# EAGLE library part ATMEGA328PB-ANR (library Atmega328pb-ANR)
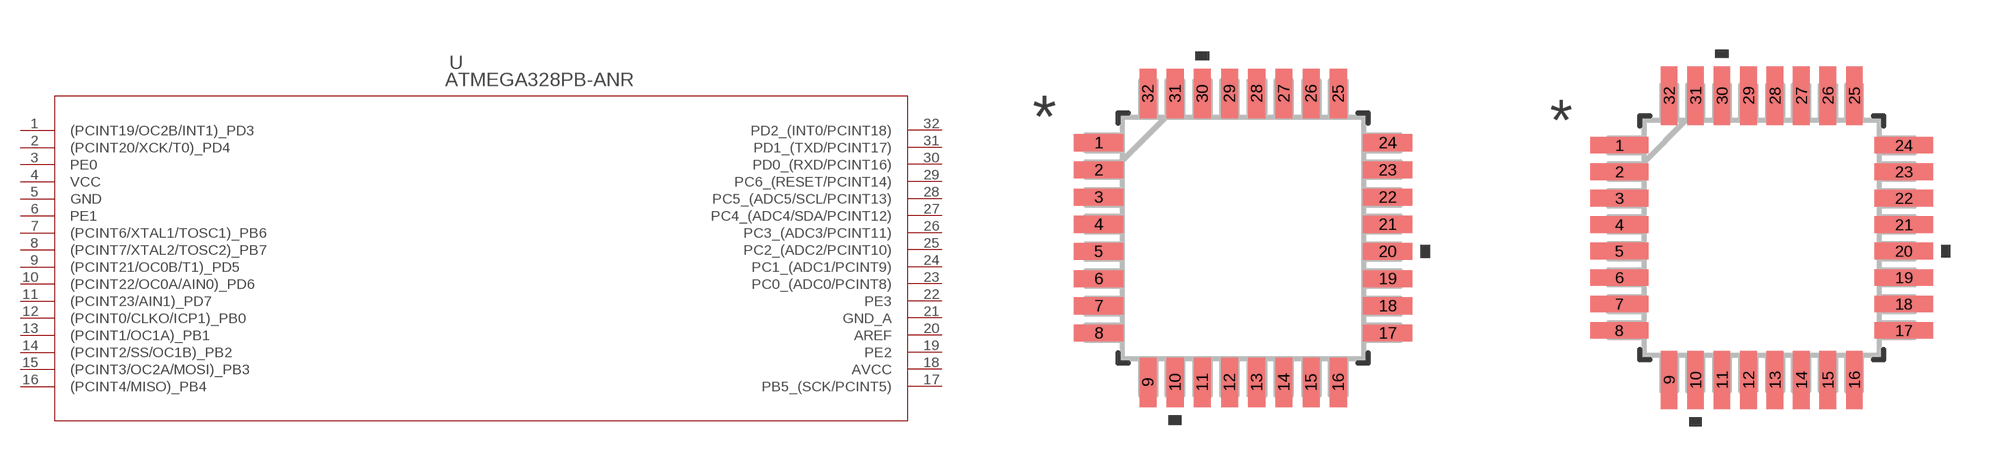
[diagram p0: symbol with the pads of 32A_MCH; footprints 32A_MCH, 32A_MCH-M]

Designator prefix U

## ATMEGA328PB-ANR (BUILT_BY: EMA_Molly; COPYRIGHT: Copyright (C) 2018 Accelerated Designs. All rights reserved; MANUFACTURER_PART_NUMBER: ATMEGA328PB-ANR; SOURCELIBRARY: Microchip_2019-09-03; VENDOR: Microchip)  [32A_MCH]
1  (PCINT19/OC2B/INT1)_PD3
2  (PCINT20/XCK/T0)_PD4
3  PE0  pwr
4  VCC  pwr
5  GND  pwr
6  PE1  pwr
7  (PCINT6/XTAL1/TOSC1)_PB6
8  (PCINT7/XTAL2/TOSC2)_PB7
9  (PCINT21/OC0B/T1)_PD5
10  (PCINT22/OC0A/AIN0)_PD6
11  (PCINT23/AIN1)_PD7
12  (PCINT0/CLKO/ICP1)_PB0
13  (PCINT1/OC1A)_PB1
14  (PCINT2/SS/OC1B)_PB2
15  (PCINT3/OC2A/MOSI)_PB3
16  (PCINT4/MISO)_PB4
17  PB5_(SCK/PCINT5)
18  AVCC  pwr
19  PE2  in
20  AREF  pas
21  GND_A  pwr
22  PE3  in
23  PC0_(ADC0/PCINT8)
24  PC1_(ADC1/PCINT9)
25  PC2_(ADC2/PCINT10)
26  PC3_(ADC3/PCINT11)
27  PC4_(ADC4/SDA/PCINT12)
28  PC5_(ADC5/SCL/PCINT13)
29  PC6_(RESET/PCINT14)
30  PD0_(RXD/PCINT16)
31  PD1_(TXD/PCINT17)
32  PD2_(INT0/PCINT18)

## ATMEGA328PB-ANR32A_MCH-M (BUILT_BY: EMA_Molly; COPYRIGHT: Copyright (C) 2018 Accelerated Designs. All rights reserved; MANUFACTURER_PART_NUMBER: ATMEGA328PB-ANR; SOURCELIBRARY: Microchip_2019-09-03; VENDOR: Microchip)  [32A_MCH-M]
Pads as for 32A_MCH

## ATMEGA328PB-ANR32A_MCH-L (BUILT_BY: EMA_Molly; COPYRIGHT: Copyright (C) 2018 Accelerated Designs. All rights reserved; MANUFACTURER_PART_NUMBER: ATMEGA328PB-ANR; SOURCELIBRARY: Microchip_2019-09-03; VENDOR: Microchip)  [32A_MCH-L]
Pads as for 32A_MCH

## Footprint 32A_MCH (pad centres in mm)
smd 1.461 x 0.501: 1 -4.25,2.8; 2 -4.25,2; 3 -4.25,1.2; 4 -4.25,0.4; 5 -4.25,-0.4; 6 -4.25,-1.2; 7 -4.25,-2; 8 -4.25,-2.8; 17 4.25,-2.8; 18 4.25,-2; 19 4.25,-1.2; 20 4.25,-0.4; 21 4.25,0.4; 22 4.25,1.2; 23 4.25,2; 24 4.25,2.8
smd 0.501 x 1.461: 9 -2.8,-4.25; 10 -2,-4.25; 11 -1.2,-4.25; 12 -0.4,-4.25; 13 0.4,-4.25; 14 1.2,-4.25; 15 2,-4.25; 16 2.8,-4.25; 25 2.8,4.25; 26 2,4.25; 27 1.2,4.25; 28 0.4,4.25; 29 -0.4,4.25; 30 -1.2,4.25; 31 -2,4.25; 32 -2.8,4.25

## Footprint 32A_MCH-M (pad centres in mm)
smd 1.766 x 0.501: 1 -4.301,2.8; 2 -4.301,2; 3 -4.301,1.2; 4 -4.301,0.4; 5 -4.301,-0.4; 6 -4.301,-1.2; 7 -4.301,-2; 8 -4.301,-2.8; 17 4.301,-2.8; 18 4.301,-2; 19 4.301,-1.2; 20 4.301,-0.4; 21 4.301,0.4; 22 4.301,1.2; 23 4.301,2; 24 4.301,2.8
smd 0.501 x 1.766: 9 -2.8,-4.301; 10 -2,-4.301; 11 -1.2,-4.301; 12 -0.4,-4.301; 13 0.4,-4.301; 14 1.2,-4.301; 15 2,-4.301; 16 2.8,-4.301; 25 2.8,4.301; 26 2,4.301; 27 1.2,4.301; 28 0.4,4.301; 29 -0.4,4.301; 30 -1.2,4.301; 31 -2,4.301; 32 -2.8,4.301

## Footprint 32A_MCH-L (pad centres in mm)
smd 1.156 x 0.45: 1 -4.199,2.8; 2 -4.199,2; 3 -4.199,1.2; 4 -4.199,0.4; 5 -4.199,-0.4; 6 -4.199,-1.2; 7 -4.199,-2; 8 -4.199,-2.8; 17 4.199,-2.8; 18 4.199,-2; 19 4.199,-1.2; 20 4.199,-0.4; 21 4.199,0.4; 22 4.199,1.2; 23 4.199,2; 24 4.199,2.8
smd 0.45 x 1.156: 9 -2.8,-4.199; 10 -2,-4.199; 11 -1.2,-4.199; 12 -0.4,-4.199; 13 0.4,-4.199; 14 1.2,-4.199; 15 2,-4.199; 16 2.8,-4.199; 25 2.8,4.199; 26 2,4.199; 27 1.2,4.199; 28 0.4,4.199; 29 -0.4,4.199; 30 -1.2,4.199; 31 -2,4.199; 32 -2.8,4.199